# Altium footprint library TSOP127P.PcbLib: 1 footprints
Each footprint in its own frame and in the unit in brackets; x right, y up, seen from the top. Pads: shape width x height; smd on the part's side, far side on the other; paste and mask are expansions set on the pad; w line width, h text height; cw(c..) or ccw(c..) is an arc to the next point about the centre after c.
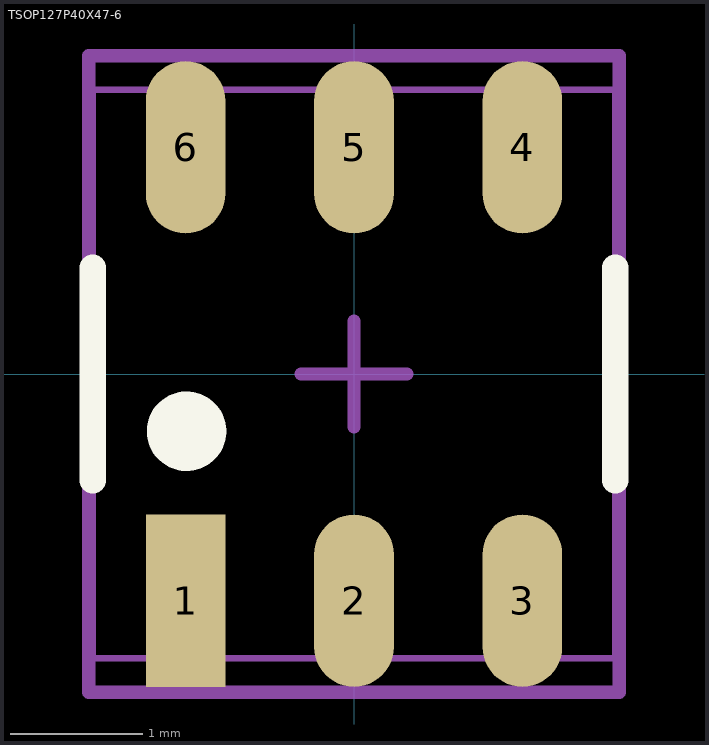
[diagram p0: the footprint, top view; thin cyan lines are the x and y axes]

## TSOP127P40X47-6 [mm]
pads (6):
  rect 0.6x1.3 smd: 1(-1.27,-1.71)
  oval 0.6x1.3 smd: 2(0,-1.71) 3(1.27,-1.71) 4(1.27,1.71) 5(0,1.71) 6(-1.27,1.71)
Top Overlay:
  circle w0.3: c-1.263,-0.432 r0.15
  lines w0.2: -1.97,-0.8 -1.97,0.8 ; 1.97,-0.8 1.97,0.8
Mechanical 13:
  lines w0.05: -1.97,-2.145 -1.97,2.145 1.97,2.145 1.97,-2.145 -1.97,-2.145
Mechanical 15:
  lines w0.1: -0.4,0 0.4,0 ; 0,-0.4 0,0.4 ; -2,-2.4 -2,2.4 2,2.4 2,-2.4 -2,-2.4
3D body: height 1.4, standoff 0.01, extent -1.97,-2.145 1.97,2.145